# EAGLE library part TSM-115-04-L-DV (library TSM-115-04-L-DV)
Check availability <https://pricing.snapeda.com/parts/TSM-115-04-L-DV/Samtec/view-part?ref=eda>
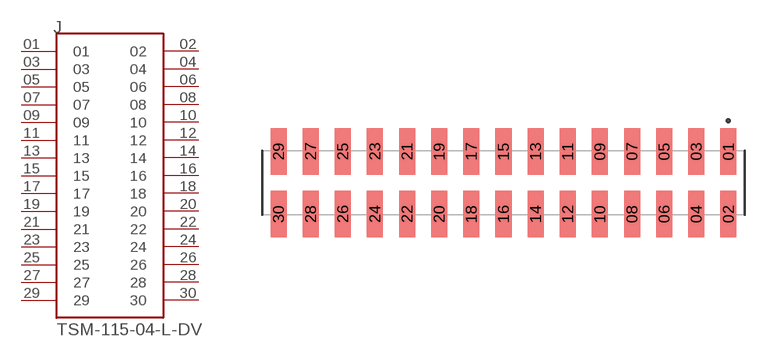
[diagram p0: symbol with the pads of SAMTEC_TSM-115-04-L-DV; footprint SAMTEC_TSM-115-04-L-DV]

Designator prefix J

## TSM-115-04-L-DV (Availability: In Stock; Description: Connector Header Surface Mount 30 position 0.100 (2.54mm); MF: Samtec; MP: TSM-115-04-L-DV; Package: None; Price: None; Purchase-URL: https://pricing.snapeda.com/search/part/TSM-115-04-L-DV/?ref=eda)  [SAMTEC_TSM-115-04-L-DV]
01  01  pas
02  02  pas
03  03  pas
04  04  pas
05  05  pas
06  06  pas
07  07  pas
08  08  pas
09  09  pas
10  10  pas
11  11  pas
12  12  pas
13  13  pas
14  14  pas
15  15  pas
16  16  pas
17  17  pas
18  18  pas
19  19  pas
20  20  pas
21  21  pas
22  22  pas
23  23  pas
24  24  pas
25  25  pas
26  26  pas
27  27  pas
28  28  pas
29  29  pas
30  30  pas

## Footprint SAMTEC_TSM-115-04-L-DV (pad centres in mm)
smd 1.27 x 3.68: 01 17.78,2.475; 02 17.78,-2.475; 03 15.24,2.475; 04 15.24,-2.475; 05 12.7,2.475; 06 12.7,-2.475; 07 10.16,2.475; 08 10.16,-2.475; 09 7.62,2.475; 10 7.62,-2.475; 11 5.08,2.475; 12 5.08,-2.475; 13 2.54,2.475; 14 2.54,-2.475; 15 0,2.475; 16 0,-2.475; 17 -2.54,2.475; 18 -2.54,-2.475; 19 -5.08,2.475; 20 -5.08,-2.475; 21 -7.62,2.475; 22 -7.62,-2.475; 23 -10.16,2.475; 24 -10.16,-2.475; 25 -12.7,2.475; 26 -12.7,-2.475; 27 -15.24,2.475; 28 -15.24,-2.475; 29 -17.78,2.475; 30 -17.78,-2.475